# Altium footprint library PAN-SVPF12.PcbLib: 1 footprints
Each footprint in its own frame and in the unit in brackets; x right, y up, seen from the top. Pads: shape width x height; smd on the part's side, far side on the other; paste and mask are expansions set on the pad; w line width, h text height; cw(c..) or ccw(c..) is an arc to the next point about the centre after c.
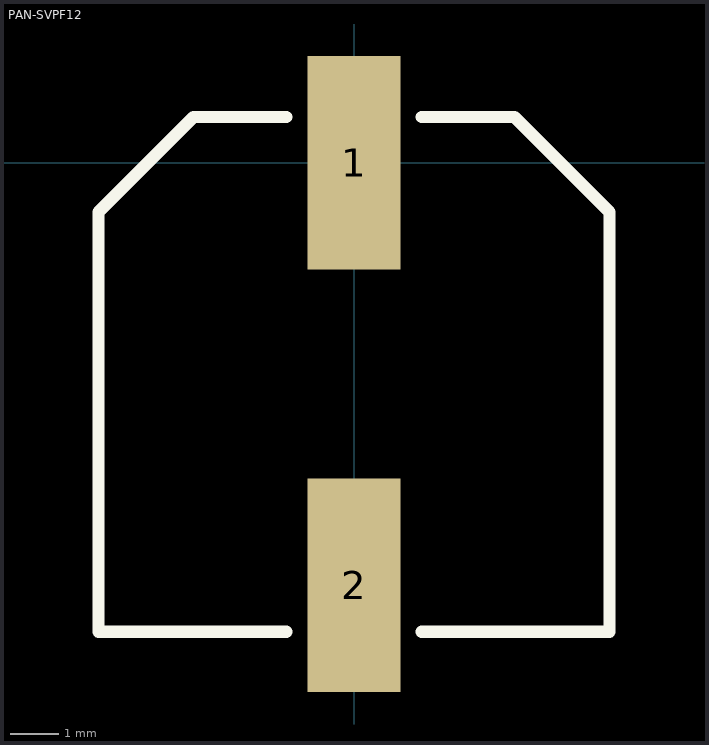
[diagram p0: the footprint, top view; thin cyan lines are the x and y axes]

## PAN-SVPF12 [mil]
pads (2):
  rect 75x173 smd: 1(0,0) 2(0,-342.5)
Top Overlay:
  lines w10: -130,37 -207,-40 -207,-380 -55,-380 ; -129,37 -55,37 ; 55,-380 207,-380 207,-40 130,37 55,37
3D body: height 497, standoff 0, extent -196,-368.22 196.44,25